# Altium schematic symbol library Passive components.SchLib: 16 symbols
Pins are listed as number, name and electrical type; pins without a type are passive.

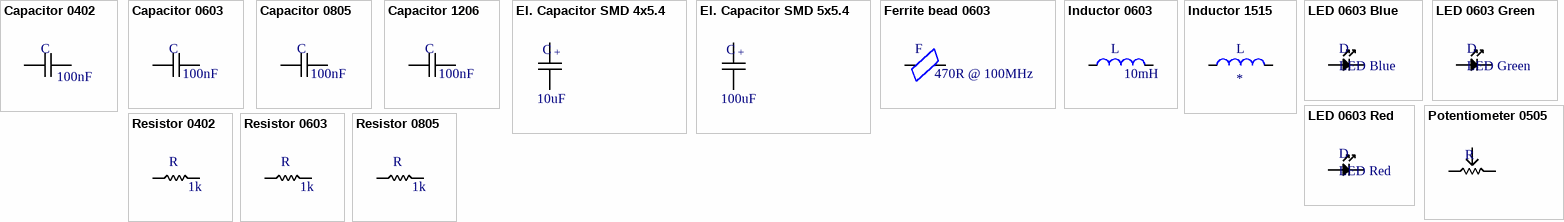
[diagram p0: symbols Capacitor 0402 to Resistor 0805]

## Capacitor 0402
designator C  value 100nF  (hidden comment: *)
footprint C0402
pins: 1, 2

## Capacitor 0603
designator C  value 100nF  (hidden comment: *)
footprint C0603
pins: 1, 2

## Capacitor 0805
designator C  value 100nF  (hidden comment: *)
footprint C0805
pins: 1, 2

## Capacitor 1206
designator C  value 100nF  (hidden comment: *)
footprint C1206
pins: 1, 2

## El. Capacitor SMD 4x5.4
designator C  value 10uF  (hidden comment: *)
footprint Capacitor electrolytic SMD 4x5.4 (Aluminum Electrolytic Capacitor, Body 4.30x4.30x5.40mm, IPC Low Density)
pins: 1, 2
text: +

## El. Capacitor SMD 5x5.4
designator C  value 100uF  (hidden comment: *)
footprint Capacitor electrolytic SMD 5x5.4 (Aluminum Electrolytic Capacitor, Body 5.30x5.30x5.40mm, IPC Low Density)
pins: 1, 2
text: +

## Ferrite bead 0603
designator F  value 470R @ 100MHz
footprint Ferrite bead 0603
pins: 1, 2

## Inductor 0603
designator L  value 10mH  (hidden comment: *)
footprint Inductor 0603
pins: 1, 2

## Inductor 1515
designator L
Parameter 1: *
footprint Inductor 1515
pins: 1, 2

## LED 0603 Blue
designator D, comment LED Blue
footprint L0603 BLUE
pins: 1, 2

## LED 0603 Green
designator D, comment LED Green
footprint L0603 GREEN
pins: 1, 2

## LED 0603 Red
designator D, comment LED Red
footprint L0603 RED
pins: 1, 2

## Potentiometer 0505
designator R
footprint Potentiometer 0505
pins: 1, 2, 3

## Resistor 0402
designator R  value 1k
footprint R0402
pins: 1, 2

## Resistor 0603
designator R  value 1k
footprint R0603
pins: 1, 2

## Resistor 0805
designator R  value 1k
footprint R0805
pins: 1, 2